# Altium footprint library MEGA.PcbLib: 237 footprints (part 1 of 15)
Each footprint in its own frame and in the unit in brackets; x right, y up, seen from the top. Pads: shape width x height; smd on the part's side, far side on the other; paste and mask are expansions set on the pad; w line width, h text height; cw(c..) or ccw(c..) is an arc to the next point about the centre after c.
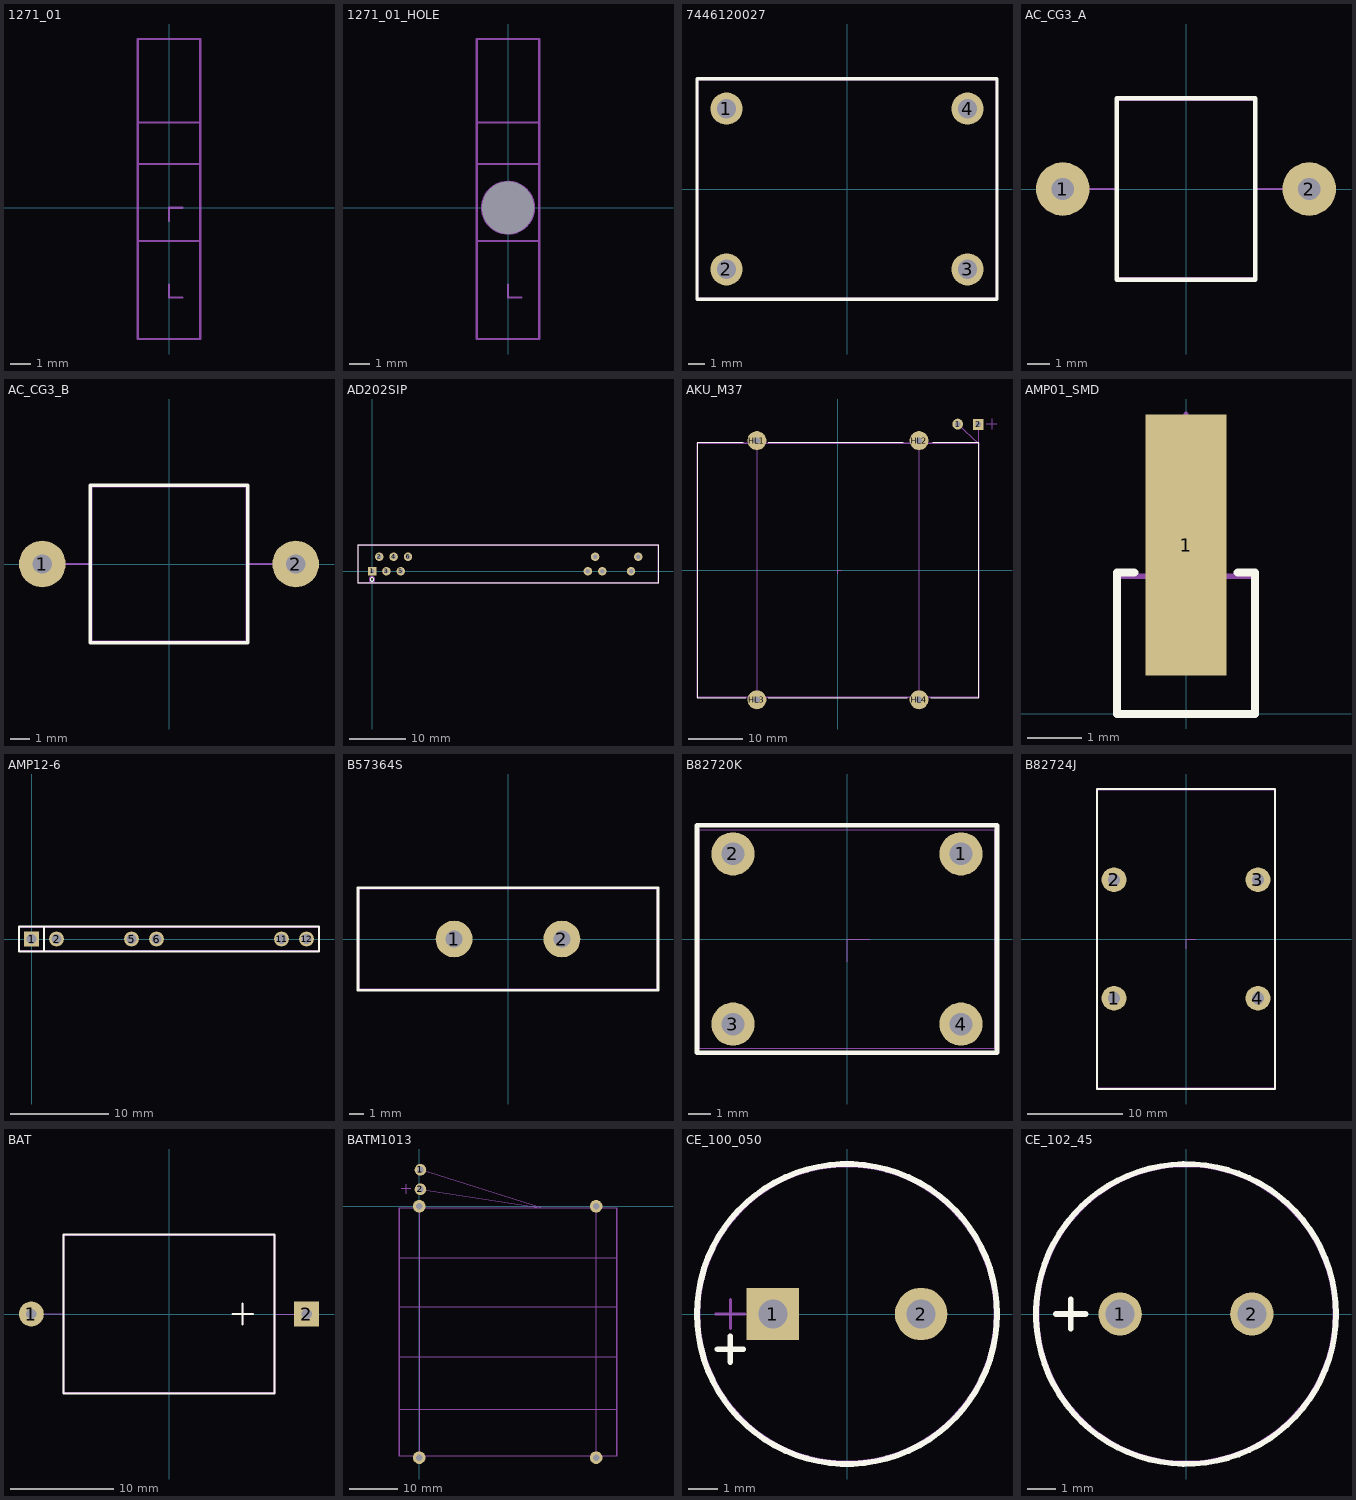
[diagram p0: the footprints below, top view; thin cyan lines are the x and y axes]

## 1271_01 [mm]
Mechanical 15:
  lines w0.1: -1.5,-1.6 1.5,-1.6 ; -1.5,2.1 1.5,2.1 ; -1.5,4.1 1.5,4.1 ; -1.5,-6.3 -1.5,8.1 1.5,8.1 1.5,-6.3 -1.5,-6.3
Mechanical 19:
  lines w0.1: 0,-3.683 0,-4.318 0.635,-4.318 ; 0,-0.635 0,0 0.635,0
  text "LED" at -0.393,-5.189 h0.5

## 1271_01_HOLE [mm]
pads (1):
  round 0 hole 2.5 unplated: HL1(0,0)
Mechanical 15:
  circle w0.1: c0,0 r1.25
  lines w0.1: -1.5,-1.6 1.5,-1.6 ; -1.5,2.1 1.5,2.1 ; -1.5,4.1 1.5,4.1 ; -1.5,-6.3 1.5,-6.3 1.5,8.1 -1.5,8.1 -1.5,-6.3
Mechanical 16:
  circle w0.1: c0,0 r1.25
Mechanical 19:
  lines w0.1: 0,-3.683 0,-4.318 0.635,-4.318 ; 0,-0.635 0,0 0.635,0
  text "LED" at -0.393,-5.189 h0.5

## 7446120027 [mm]
pads (4):
  round 2 hole 1.2 mask+0.1: 1(-7.5,5) 2(-7.5,-5) 3(7.5,-5) 4(7.5,5)
Top Overlay:
  lines w0.2: -9.335,-6.858 9.335,-6.858 9.335,6.858 -9.335,6.858 -9.335,-6.858
Mechanical 15:
  lines w0.1: -9.3,-6.8 9.3,-6.8 9.3,6.8 -9.3,6.8 -9.3,-6.8
Multi-Layer:
  text "Value" at -1.135,-1.825 h0.75
Mechanical 20:
  lines w0.1: -9.335,-6.858 9.335,-6.858 9.335,6.858 -9.335,6.858 -9.335,-6.858

## AC_CG3_A [mm]
pads (2):
  round 2.4 hole 1 mask+0.05: 1(-5.524,0) 2(5.524,0)
Top Overlay:
  lines w0.2: -3.111,-4.064 3.111,-4.064 3.111,4.064 -3.111,4.064 -3.111,-4.064
Mechanical 15:
  lines w0.1: -5.524,0 -3.048,0 ; 3.048,0 5.524,0 ; -3.048,-4 3.048,-4 3.048,4 -3.048,4 -3.048,-4
Multi-Layer:
  text "Value" at -1.235,-1.822 h0.75
Mechanical 20:
  lines w0.1: -3.111,-4.064 3.111,-4.064 3.111,4.064 -3.111,4.064 -3.111,-4.064

## AC_CG3_B [mm]
pads (2):
  round 2.4 hole 1 mask+0.05: 1(-6.54,0) 2(6.54,0)
Top Overlay:
  lines w0.2: -4.064,-4.064 4.064,-4.064 4.064,4.064 -4.064,4.064 -4.064,-4.064
Mechanical 15:
  lines w0.1: -6.54,0 -4,0 ; 4,0 6.54,0 ; -4,-4 4,-4 4,4 -4,4 -4,-4
Mechanical 20:
  lines w0.1: -4.064,-4.064 4.064,-4.064 4.064,4.064 -4.064,4.064 -4.064,-4.064

## AD202SIP [mm]
pads (11):
  rect 1.5x1.5 hole 0.8 mask+0.05: 1(0,0)
  round 1.5 hole 0.8 mask+0.05: 2(1.27,2.54) 3(2.54,0) 4(3.81,2.54) 5(5.08,0) 6(6.35,2.54) 31(38.1,0) 32(39.37,2.54) 33(40.64,0) 37(45.72,0) 38(46.99,2.54)
Top Overlay:
  circle w0.2: c0,-1.46 r0.318
  lines w0.2: -2.476,-2.095 50.482,-2.095 50.482,4.635 -2.476,4.635 -2.476,-2.095
Mechanical 15:
  circle w0.1: c0,-1.46 r0.508
  lines w0.1: -2.413,-2.032 50.419,-2.032 50.419,4.572 -2.413,4.572 -2.413,-2.032
Multi-Layer:
  text "Value" at 21.053,-0.615 h0.75
Mechanical 20:
  lines w0.1: -2.476,-2.095 50.482,-2.095 50.482,4.635 -2.476,4.635 -2.476,-2.095

## AKU_M37 [mm]
pads (6):
  round 2 hole 1 mask+0.1: 1(22.162,27.051)
  rect 2x2 hole 1 mask+0.1: 2(25.971,26.987)
  round 3.5 hole 1.2 mask+0.1: HL1(-15,24) HL2(15,24) HL3(-15,-24) HL4(15,-24)
Top Overlay:
  lines w0.2: -17.526,23.622 -26.098,23.622 -26.098,-23.622 -17.081,-23.622 ; -12.954,23.622 12.128,23.622 ; -12.89,-23.622 12.827,-23.622 ; 17.145,-23.622 26.098,-23.622 26.098,23.622 17.526,23.622
Mechanical 15:
  circle w0.1: c22.162,27.051 r0.5
  circle w0.1: c25.971,26.987 r0.5
  circle w0.1: c-15,-24 r0.6
  circle w0.1: c15,-24 r0.6
  circle w0.1: c15,24 r0.6
  lines w0.1: -15,-24 -15,24 ; 15,-24 15,24 ; 22.162,27.051 25.971,23.495 25.971,26.987 ; 27.438,27.051 29.439,27.051 ; 28.439,26.051 28.439,28.051 ; -26,-23.5 26,-23.5 26,23.5 -26,23.5 -26,-23.5
Mechanical 16:
  circle w0.1: c22.162,27.051 r0.5
  circle w0.1: c25.971,26.987 r0.5
  circle w0.1: c-15,-24 r0.6
  circle w0.1: c15,-24 r0.6
  circle w0.1: c15,24 r0.6
  circle w0.1: c-15,24 r0.6
  circle w0.1: c-15,24 r0.6
Mechanical 19:
  lines w0.1: 0,-0.635 0,0 0.635,0
Mechanical 20:
  lines w0.1: -26.1,-23.6 26.1,-23.6 26.1,23.6 -26.1,23.6 -26.1,-23.6

## AMP01_SMD [mm]
pads (1):
  rect 1.5x4.8 smd mask+0.05: 1(0,3.111)
Top Overlay:
  lines w0.15: -0.953,2.603 -1.27,2.603 -1.27,0 1.27,0 1.27,2.603 0.953,2.603
Mechanical 15:
  lines w0.1: 0,1.27 0,5.524 ; -1.27,0 1.27,0 1.27,2.54 -1.27,2.54 -1.27,0

## AMP12-6 [mm]
height 9.5
pads (6):
  rect 1.5x1.5 hole 1 mask+0.1: 1(0,0)
  round 1.5 hole 1 mask+0.1: 2(2.54,0) 5(10.16,0) 6(12.7,0) 11(25.4,0) 12(27.94,0)
Top Overlay:
  lines w0.2: 1.27,-1.27 1.27,1.27 ; -1.27,-1.27 29.21,-1.27 29.21,1.27 -1.27,1.27 -1.27,-1.27
Mechanical 15:
  lines w0.1: 1.27,-1.27 1.27,1.27 ; -1.27,-1.27 29.21,-1.27 29.21,1.27 -1.27,1.27 -1.27,-1.27
Mechanical 20:
  lines w0.1: -1.206,-1.206 29.146,-1.206 29.146,1.206 -1.206,1.206 -1.206,-1.206

## B57364S [mm]
pads (2):
  round 2.6 hole 1.2 mask+0.05: 1(-3.81,0) 2(3.81,0)
Top Overlay:
  lines w0.2: -10.604,-3.619 10.604,-3.619 10.604,3.619 -10.604,3.619 -10.604,-3.619
Mechanical 15:
  lines w0.1: -10.541,-3.556 10.541,-3.556 10.541,3.556 -10.541,3.556 -10.541,-3.556
Multi-Layer:
  text "Value" at -1.235,-1.822 h0.75
Mechanical 20:
  lines w0.1: -10.604,-3.619 10.604,-3.619 10.604,3.619 -10.604,3.619 -10.604,-3.619

## B82720K [mm]
pads (4):
  round 1.9 hole 1 mask+0.05: 1(5.016,3.746) 2(-5.016,3.746) 3(-5.016,-3.746) 4(5.016,-3.746)
Top Overlay:
  lines w0.2: -6.6,-5 -6.6,5 6.6,5 6.6,-5 -6.6,-5
Mechanical 15:
  lines w0.01: -6.5,-4.8 -6.5,4.8 6.5,4.8 6.5,-4.8 -6.5,-4.8
Multi-Layer:
  text "Value" at -1.19,-0.824 h0.75
Mechanical 19:
  lines w0.01: 0,-1 0,0 1,0
Mechanical 20:
  lines w0.01: -6.6,-5 -6.6,5 6.6,5 6.6,-5 -6.6,-5

## B82724J [mm]
pads (4):
  round 2.6 hole 1.3 mask+0.05: 1(-7.556,-6.223) 2(-7.556,6.223) 3(7.556,6.223) 4(7.556,-6.223)
Top Overlay:
  lines w0.2: -9.335,-15.748 9.335,-15.748 9.335,15.748 -9.335,15.748 -9.335,-15.748
Mechanical 15:
  lines w0.01: -9.271,-15.684 9.271,-15.684 9.271,15.684 -9.271,15.684 -9.271,-15.684
Multi-Layer:
  text "Value" at -1.19,-0.824 h0.75
Mechanical 19:
  lines w0.01: 0,-1 0,0 1,0
Mechanical 20:
  lines w0.01: -9.335,-15.748 9.335,-15.748 9.335,15.748 -9.335,15.748 -9.335,-15.748

## BAT [mm]
pads (2):
  round 2.4 hole 1 mask+0.05: 1(-13.335,0)
  rect 2.4x2.4 hole 1 mask+0.05: 2(13.335,0)
Top Overlay:
  lines w0.2: 6.142,0 8.143,0 ; 7.143,-1 7.143,1 ; -10.223,-7.683 10.223,-7.683 10.223,7.683 -10.223,7.683 -10.223,-7.683
Mechanical 15:
  lines w0.1: -13.335,0 -10.16,0 ; 6.142,0 8.143,0 ; 7.143,-1 7.143,1 ; 10.16,0 13.335,0 ; -10.16,-7.62 10.16,-7.62 10.16,7.62 -10.16,7.62 -10.16,-7.62
Mechanical 20:
  lines w0.1: -10.223,-7.683 10.223,-7.683 10.223,7.683 -10.223,7.683 -10.223,-7.683

## BATM1013 [mm]
pads (6):
  round 2.4 hole 1.3 mask+0.05: 1(0.254,7.493) 2(0.254,3.492)
  round 2.6 hole 1.3 mask+0.05: HL1(0,0) HL2(36.386,0) HL3(0,-51.689) HL4(36.386,-51.689)
Mechanical 15:
  circle w0.1: c0,-51.689 r0.65
  circle w0.1: c36.386,-51.689 r0.65
  circle w0.1: c36.386,0 r0.65
  lines w0.1: -4,-41.846 40.513,-41.846 ; -4,-30.924 40.513,-30.924 ; -4,-20.764 40.513,-20.764 ; -4,-10.541 40.513,-10.541 ; -3.726,3.559 -1.726,3.559 ; -2.726,2.559 -2.726,4.559 ; 0,-51.689 0,0 ; 0.254,3.492 24.956,-0.318 0.254,7.493 ; 36.386,-51.689 36.386,0 ; -4,-51.371 40.513,-51.371 40.513,-0.318 -4,-0.318 -4,-51.371
Mechanical 16:
  circle w0.1: c0,-51.689 r0.65
  circle w0.1: c36.386,-51.689 r0.65
  circle w0.1: c36.386,0 r0.65
  circle w0.1: c0,0 r0.65
  circle w0.1: c0,0 r0.65
Multi-Layer:
  text "Value" at 13.765,-25.822 h0.75
Mechanical 20:
  lines w0.1: -4.064,-51.435 40.576,-51.435 40.576,-0.254 -4.064,-0.254 -4.064,-51.435

## CE_100_050 [mm]
pads (2):
  rect 1.8x1.8 hole 1 mask+0.05: 1(-2.54,0)
  round 1.8 hole 1 mask+0.05: 2(2.54,0)
Top Overlay:
  circle w0.2: c0,0 r5.143
  lines w0.2: -4.445,-1.206 -3.556,-1.206 ; -4,-1.651 -4,-0.762
Mechanical 15:
  circle w0.1: c0,0 r5.08
  lines w0.1: -4.5,0 -3.5,0 ; -4,-0.5 -4,0.5
Mechanical 20:
  circle w0.1: c0,0 r5.143

## CE_102_45 [mm]
pads (2):
  round 1.5 hole 1 mask+0.1: 1(-2.286,0) 2(2.286,0)
Top Overlay:
  circle w0.2: c0,0 r5.207
  lines w0.2: -4.508,0 -3.492,0 ; -4,-0.508 -4,0.508
Mechanical 15:
  circle w0.1: c0,0 r5.143
  lines w0.1: -4.5,0 -3.5,0 ; -4,-0.5 -4,0.5
Mechanical 20:
  circle w0.1: c0,0 r5.207